# Altium footprint library Crystal and Oscillator Footprints.PcbLib: 5 footprints
Each footprint in its own frame and in the unit in brackets; x right, y up, seen from the top. Pads: shape width x height; smd on the part's side, far side on the other; paste and mask are expansions set on the pad; w line width, h text height; cw(c..) or ccw(c..) is an arc to the next point about the centre after c.
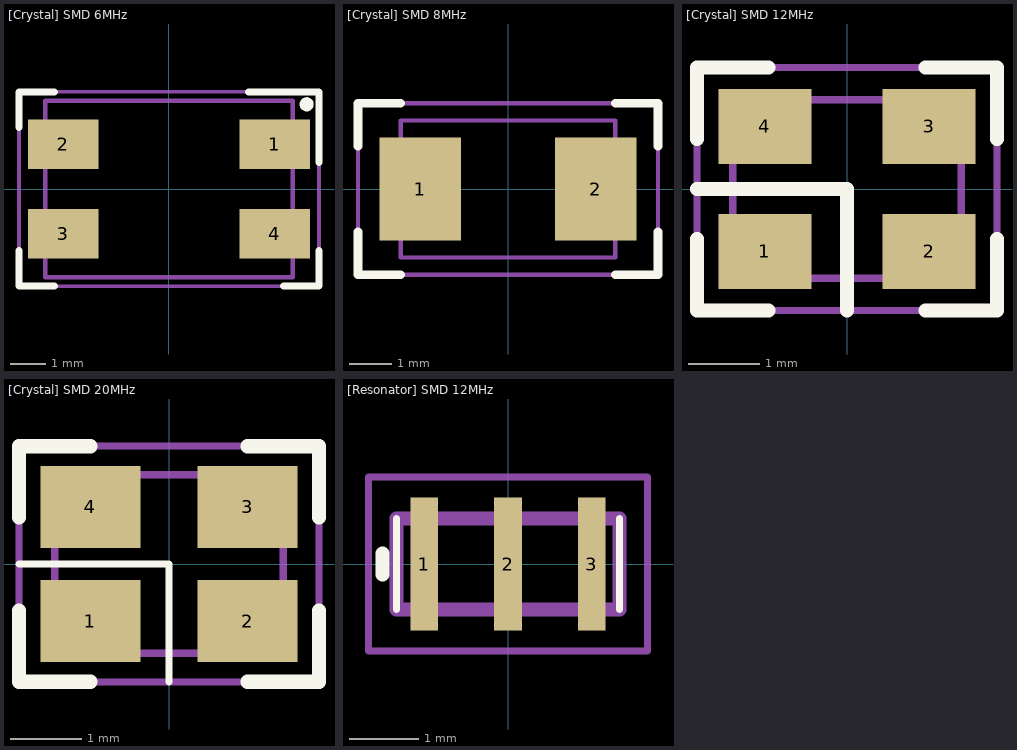
[diagram p0: the footprints below, top view; thin cyan lines are the x and y axes]

## [Crystal] SMD 6MHz [mm] "ECS-060-18-20BM-JEN-TR"
pads (4):
  rect 2x1.4 smd: 1(3,1.27) 2(-3,1.27) 3(-3,-1.27) 4(3,-1.27)
Top Overlay:
  circle w0.2: c3.9,2.4 r0.1
  lines w0.2: -4.25,-1.75 -4.25,-2.75 -3.25,-2.75 ; -4.25,1.75 -4.25,2.75 -3.25,2.75 ; 2.25,2.75 4.25,2.75 4.25,0.75 ; 3.25,-2.75 4.25,-2.75 4.25,-1.75
Physical Outline:
  lines w0.127: -3.5,-2.5 3.5,-2.5 3.5,2.5 -3.5,2.5 -3.5,-2.5
Part Border:
  lines w0.1: -4.25,-2.75 -4.25,2.75 4.25,2.75 4.25,-2.75 -4.25,-2.75
3D body "step_temp.STEP": height 1.3, standoff 0, extent -3.5,-2.5 3.5,2.5

## [Crystal] SMD 8MHz [mm]
pads (2):
  rect 1.9x2.4 smd: 1(-2.05,0) 2(2.05,0)
Top Overlay:
  lines w0.2: -3.5,-1 -3.5,-2 -2.5,-2 ; -3.5,1 -3.5,2 -2.5,2 ; 2.5,-2 3.5,-2 3.5,-1 ; 2.5,2 3.5,2 3.5,1
Physical Outline:
  lines w0.1: -2.5,-1.6 2.5,-1.6 2.5,1.6 -2.5,1.6 -2.5,-1.6
Part Border:
  lines w0.1: -3.5,-2 3.5,-2 3.5,2 -3.5,2 -3.5,-2
3D body "ABM38000MHZD2YT.stp": height 1.3, standoff 0, extent -2.5,-1.6 2.5,1.6

## [Crystal] SMD 12MHz [mm]
pads (4):
  rect 1.3x1.05 smd: 1(-1.15,-0.875) 2(1.15,-0.875) 3(1.15,0.875) 4(-1.15,0.875)
Top Overlay:
  lines w0.2: -2.1,-1.7 -2.1,-0.7 ; -2.1,0 0,0 0,-1.7 ; -2.1,0.7 -2.1,1.7 -1.1,1.7 ; -2.1,-1.7 -1.1,-1.7 ; 1.099,1.7 2.099,1.7 2.1,0.7 ; 1.1,-1.7 2.1,-1.7 ; 2.1,-1.699 2.1,-0.699
Physical Outline:
  lines w0.1: -1.6,-1.25 1.6,-1.25 1.6,1.25 -1.6,1.25 -1.6,-1.25
Part Border:
  lines w0.1: -2.1,-1.7 -2.1,1.7 2.1,1.7 ; -2.1,-1.7 2.1,-1.7 ; 2.1,-1.7 2.1,1.7
3D body "ABM8-272-T3.stp": height 0.75, standoff 0, extent -1.6,-1.25 1.6,1.25

## [Crystal] SMD 20MHz [mm] "TSX-3225 20.0000MF20G-AC3"
pads (4):
  rect 1.4x1.15 smd: 1(-1.1,-0.8) 2(1.1,-0.8) 3(1.1,0.8) 4(-1.1,0.8)
Top Overlay:
  lines w0.1: -2.1,0 0,0 0,-1.65
  lines w0.2: -2.1,-0.65 -2.1,-1.65 -1.1,-1.65 ; -2.1,0.65 -2.1,1.65 -1.1,1.65 ; 1.1,-1.65 2.1,-1.65 2.1,-0.65 ; 1.1,1.65 2.1,1.65 2.1,0.65
Physical Outline:
  lines w0.1: -1.6,-1.25 -1.6,1.25 1.6,1.25 1.6,-1.25 -1.6,-1.25
Part Border:
  lines w0.1: -2.1,-1.65 2.1,-1.65 2.1,1.65 -2.1,1.65 -2.1,-1.65
3D body "TSX-3225_20.0000MF20G-AC0.stp": height 0.6, standoff 0, extent -1.6,-1.25 1.6,1.25

## [Resonator] SMD 12MHz [mm]
pads (3):
  rect 0.4x1.9 smd: 1(-1.2,0) 2(0,0) 3(1.2,0)
Top Overlay:
  lines w0.1: -1.6,-0.65 -1.6,0.65 ; 1.6,-0.65 1.6,0.65
  lines w0.2: -1.8,-0.15 -1.8,0.15
Physical Outline:
  lines w0.2: -1.6,-0.65 1.6,-0.65 1.6,0.65 -1.6,0.65 -1.6,-0.65
Part Border:
  lines w0.1: -2,-1.25 2,-1.25 2,1.25 -2,1.25 -2,-1.25
3D body "CSTNE12M0GH5L000R0.stp": height 0.8, standoff 0, extent -1.6,-0.65 1.6,0.65